# Altium schematic symbol library IC_TL431.Schlib: 1 symbol
Pins are listed as number, name and electrical type; pins without a type are passive.

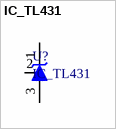
[diagram p0: symbol IC_TL431]

## IC_TL431
designator U?
pins: 1 C, 2 Ref, 3 A